# Altium integrated library Panasonic Diodes.IntLib: 1 symbol
Pins are listed as number, name and electrical type; pins without a type are passive.

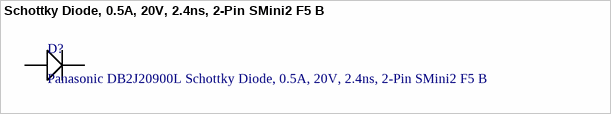
[diagram p0: symbol Schottky Diode, 0.5A, 20V, 2.4ns, 2-Pin SMini2 F5 B]

## Schottky Diode, 0.5A, 20V, 2.4ns, 2-Pin SMini2 F5 B
designator D?, comment Panasonic DB2J20900L Schottky Diode, 0.5A, 20V, 2.4ns, 2-Pin SMini2 F5 B
Created By: R Kanjee; Date Created: 1 March 2015; Manufacturer: Panasonic; RS Stock No.: 713-2703; Manufacturer Part No.: DB2J20900L; Datasheet: http://docs-europe.electrocomponents.com/webdocs/1398/0900766b813986b3.pdf; Maximum Continuous Forward Current: 0.5A; Peak Reverse Repetitive Voltage: 20V
footprint DIOM1712X07N (Molded Diode, 2-Leads, Body 1.70x1.25mm, IPC Medium Density)
footprint DIOM1712X07N (Molded Diode, 2-Leads, Body 1.70x1.25mm, IPC Medium Density)
pins: 1, 2